# Altium footprint library Planck-Pi-DK.PcbLib: 21 footprints (part 1 of 2)
Each footprint in its own frame and in the unit in brackets; x right, y up, seen from the top. Pads: shape width x height; smd on the part's side, far side on the other; paste and mask are expansions set on the pad; w line width, h text height; cw(c..) or ccw(c..) is an arc to the next point about the centre after c.
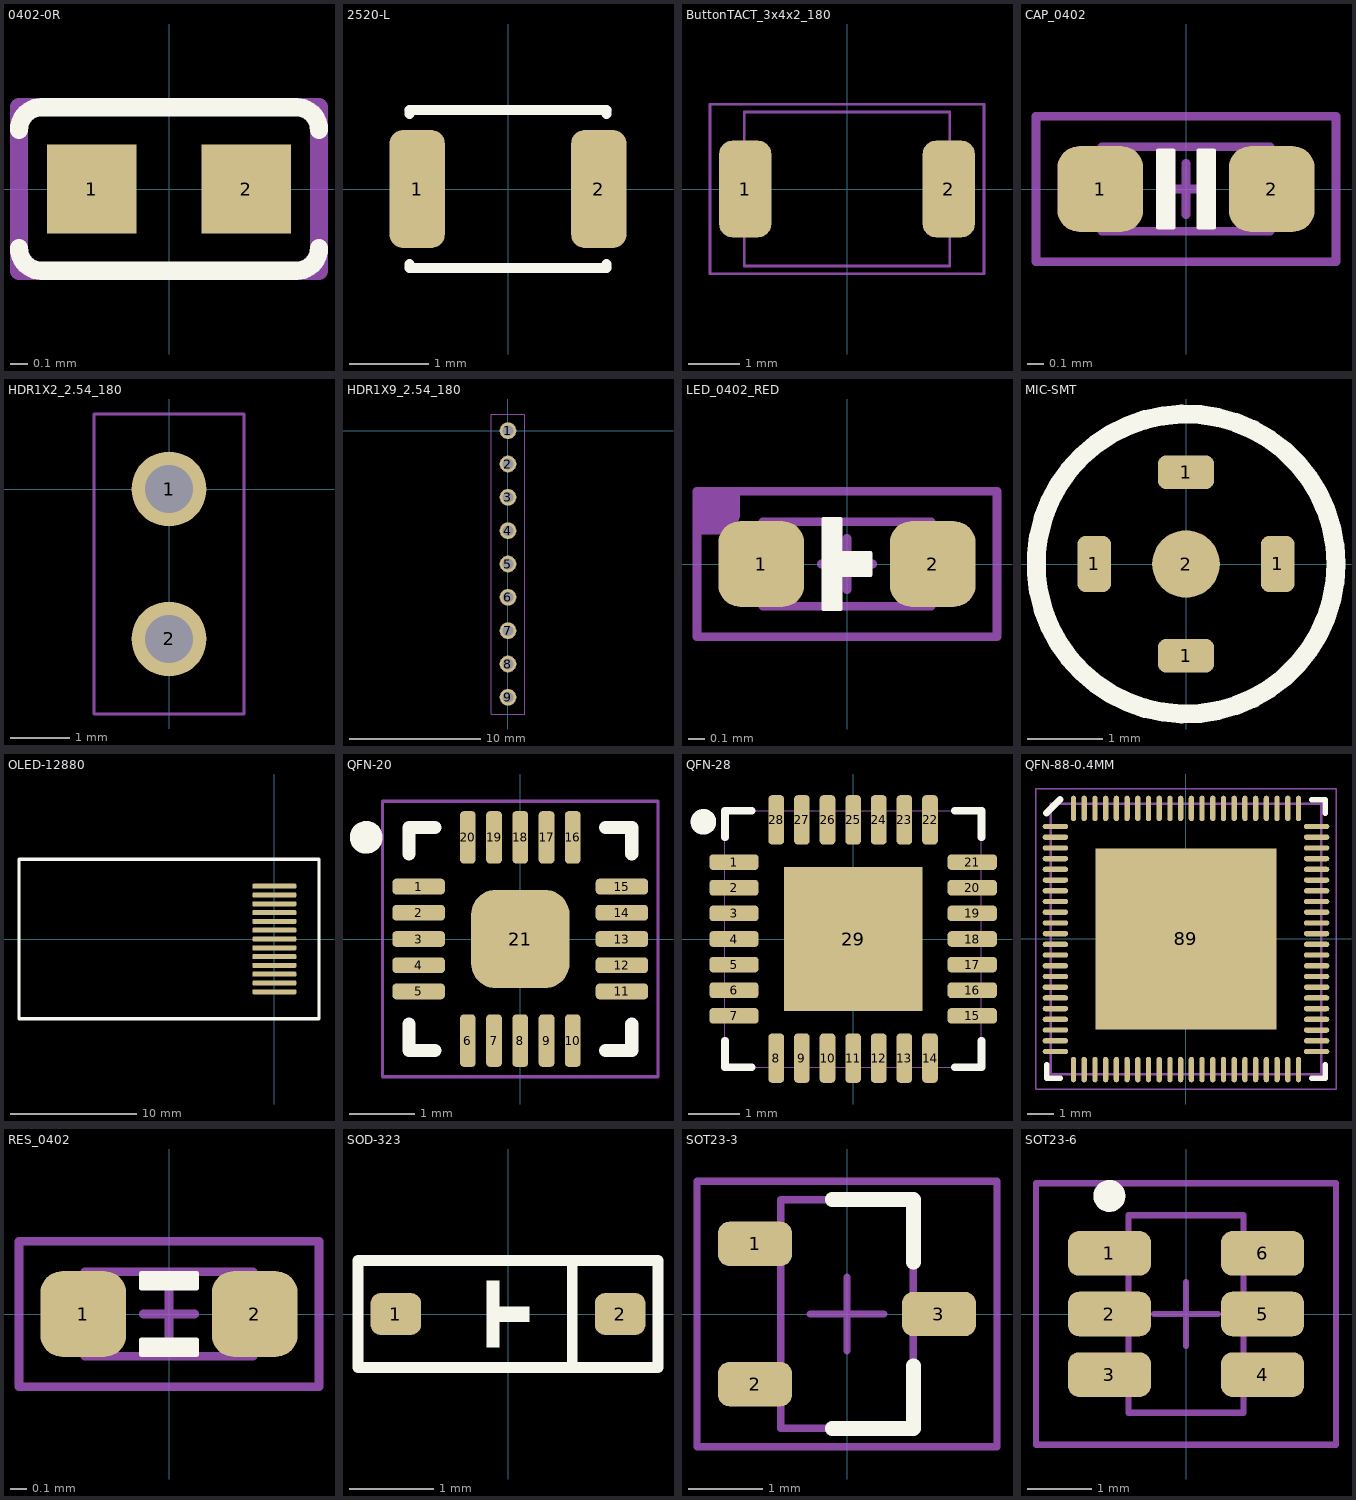
[diagram p0: the footprints below, top view; thin cyan lines are the x and y axes]

## 0402-0R [mm] "选择焊盘"
height 4.3
pads (2):
  rect 0.5x0.5 smd: 1(-0.432,0) 2(0.432,0)
Top Overlay:
  lines w0.102: -0.838,-0.33 ccw(c-0.711,-0.33) -0.711,-0.457 0.711,-0.457 ccw(c0.711,-0.33) 0.838,-0.33 ; -0.838,0.33 cw(c-0.711,0.33) -0.711,0.457 0.711,0.457 cw(c0.711,0.33) 0.838,0.33
Mechanical 15:
  lines w0.1: -0.838,-0.457 0.838,-0.457 0.838,0.457 -0.838,0.457 -0.838,-0.457

## 2520-L [mm]
height 4.3
pads (2):
  rrect50% 0.7x1.5 smd: 1(-1.15,0) 2(1.15,0)
Top Overlay:
  lines w0.127: -1.25,-0.95 -1.25,-1 1.25,-1 1.25,-0.95 ; -1.25,0.95 -1.25,1 1.25,1 1.25,0.95
Mechanical 1:
  lines w0.127: -1.25,-1 1.25,-1 ; -1.25,1 1.25,1
3D body "User Library-Chip InductorINDC2012X95N.STEP": height 0.92, standoff -0.03, extent -1,-0.6 1,0.6

## ButtonTACT_3x4x2_180 [mil]
height 78.74
pads (2):
  rrect50% 40x74 smd: 1(-78,0) 2(78,0)
Mechanical 13:
  lines w2: -78.73,-59.05 78.75,-59.05 78.75,59.06 -78.74,59.06 -78.74,-59.06
Mechanical 14:
  lines w2: -105,-65 105,-65 105,65 -105,65 -105,-65
3D body "20041.stp": height 62.99, standoff 0, extent -78.73,-49.2 78.75,49.22

## CAP_0402 [mil]
height 21.65
pads (2):
  rrect50% 20x20 smd: 1(-20,0) 2(20,0)
Top Overlay:
  region: -6.5,9 -3,9 -3,-9 -6.5,-9
  region: 6.5,-9 3,-9 3,9 6.5,9
  lines w1: -6.5,-9 -3,-9 -3,9 -6.5,9 -6.5,-9 ; 3,-9 3,9 6.5,9 6.5,-9 3,-9
Mechanical 13:
  lines w2: -6,0 6,0 ; 0,-6 0,6 ; -19.69,-9.84 -19.69,9.84 19.68,9.84 19.68,-9.84 -19.69,-9.84
Mechanical 14:
  lines w2: -35,-17 -35,17 35,17 35,-17 -35,-17
3D body "CAPC1005X05L.step": height 19.68, standoff 0, extent -19.68,-9.84 19.69,9.85

## HDR1X2_2.54_180 [mil]
height 169.29
pads (2):
  round 50 hole 32: 1(0,0) 2(0,-100)
Mechanical 13:
  lines w2: -50,-150 50,-150 50,50 -50,50 -50,-150
Mechanical 14:
  lines w2: -50,-150 50,-150 50,50 -50,50 -50,-150
3D body "pin_header_aw140-eg-g02d.stp": height 322.83, standoff -118.11, extent -49.18,-150 49.18,50

## HDR1X9_2.54_180 [mil]
height 169.29
pads (9):
  round 50 hole 32: 1(0,0) 2(0,-100) 3(0,-200) 4(0,-300) 5(0,-400) 6(0,-500) 7(0,-600) 8(0,-700) 9(0,-800)
Mechanical 13:
  lines w2: -50,-850 50,-850 50,50 -50,50 -50,-850
Mechanical 14:
  lines w2: -50,-850 -50,50 50,50 50,-850 -50,-850
  text ".Designator" at -31,-420 h80
3D body "pin_header_aw140-eg-g09d.stp": height 322.83, standoff -118.11, extent -49.18,-849.99 49.18,50

## LED_0402_RED [mil]
height 31.5
pads (2):
  rrect50% 20x20 smd: 1(-20,0) 2(20,0)
Top Overlay:
  region: -5.5,10.5 -1.5,10.5 -1.5,2.5 5.5,2.5 5.5,-2.5 -1.5,-2.5 -1.5,-10.5 -5.5,-10.5
  lines w1: -5.5,-10.5 -5.5,10.5 -1.5,10.5 -1.5,2.5 5.5,2.5 5.5,-2.5 -1.5,-2.5 -1.5,-10.5 -5.5,-10.5
Mechanical 13:
  lines w2: -6,0 6,0 ; 0,-6 0,6 ; -19.69,-9.84 19.68,-9.84 19.68,9.84 -19.69,9.84 -19.69,-9.84
Mechanical 14:
  region: -35,17 -25,17 -25,12 -25,11.01 -25.76,9.17 -27.17,7.76 -29.01,7 -30,7 -35,7
  lines w2: -35,-17 35,-17 35,17 -35,17 -35,-17
3D body "User Library-led_0402LED0402 red_.STEP": height 17.72, standoff 0, extent -19.88,-9.84 19.89,9.85

## MIC-SMT [mm]
height 0.8
pads (5):
  rrect50% 0.45x0.75 smd: 1(-1.223,0) 1(1.223,0)
  rrect50% 0.75x0.45 smd: 1(0,-1.223) 1(0,1.223)
  round 0.9 smd: 2(0,0)
Top Overlay:
  circle w0.254: c0,0 r2
3D body "mic.step": height 1.35, standoff 0, extent -2,-2 2,2

## OLED-12880 [mm]
height 4.3
pads (13):
  rrect50% 3.5x0.4 smd: 1(0,-4.2) 2(0,-3.5) 3(0,-2.8) 4(0,-2.1) 5(0,-1.4) 6(0,-0.7) 7(0,0) 8(0,0.7) 9(0,1.4) 10(0,2.1) 11(0,2.8) 12(0,3.5) 13(0,4.2)
Top Overlay:
  lines w0.254: -20.32,-6.35 -20.32,6.35 3.556,6.35 3.556,-6.35 -20.32,-6.35
3D body "Ctrl-DualBoard-Down v1.step": height 1.55, standoff 0.09, extent -20.182,-6.25 7.54,6.25

## QFN-20 [mm] "QFN, 20-Leads, Body 3.00x3.00mm, Pitch 0.40mm, Thermal Pad 1.65x1.65mm, IPC Medium Density"
height 0.8
pads (21):
  rrect50% 0.8x0.24 smd: 1(-1.55,0.8) 2(-1.55,0.4) 3(-1.55,0) 4(-1.55,-0.4) 5(-1.55,-0.8) 11(1.55,-0.8) 12(1.55,-0.4) 13(1.55,0) 14(1.55,0.4) 15(1.55,0.8)
  rrect50% 0.24x0.8 smd: 6(-0.8,-1.55) 7(-0.4,-1.55) 8(0,-1.55) 9(0.4,-1.55) 10(0.8,-1.55) 16(0.8,1.55) 17(0.4,1.55) 18(0,1.55) 19(-0.4,1.55) 20(-0.8,1.55)
  rrect50% 1.5x1.5 smd: 21(0,0)
Top Overlay:
  circle w0.25: c-2.35,1.55 r0.125
  lines w0.2: -1.7,-1.3 -1.7,-1.7 -1.3,-1.7 ; -1.7,1.3 -1.7,1.7 -1.3,1.7 ; 1.3,-1.7 1.7,-1.7 1.7,-1.3 ; 1.3,1.7 1.7,1.7 1.7,1.3
Mechanical 15:
  lines w0.05: -2.1,-2.1 -2.1,2.1 2.1,2.1 2.1,-2.1 -2.1,-2.1
  lines w0.1: -0.5,0 0.5,0 ; 0,-0.5 0,0.5
3D body "QFN40P300X300X80_HS-21N.step": height 0.8, standoff 0, extent -1.56,-1.56 1.56,1.56

## QFN-28 [mil]
height 169.29
pads (29):
  rrect50% 38x12 smd mask+5: 1(-91.5,59.06) 2(-91.5,39.37) 3(-91.5,19.68) 4(-91.5,0) 5(-91.5,-19.68) 6(-91.5,-39.37) 7(-91.5,-59.06) 15(91.5,-59.06) 16(91.5,-39.37) 17(91.5,-19.68) 18(91.5,0) 19(91.5,19.68) 20(91.5,39.37) 21(91.5,59.06)
  rrect50% 12x38 smd mask+5: 8(-59.06,-91.5) 9(-39.37,-91.5) 10(-19.68,-91.5) 11(0,-91.5) 12(19.68,-91.5) 13(39.37,-91.5) 14(59.06,-91.5) 22(59.06,91.5) 23(39.37,91.5) 24(19.68,91.5) 25(0,91.5) 26(-19.68,91.5) 27(-39.37,91.5) 28(-59.06,91.5)
  rect 106.3x110.24 smd: 29(0,0)
Top Overlay:
  circle w9.84: c-115,90 r4.92
  lines w6: -98.5,-78.16 -98.5,-98.5 -78.16,-98.5 ; -98.5,78.16 -98.5,98.5 -78.16,98.5 ; 78.16,-98.5 98.5,-98.5 98.5,-78.16 ; 78.16,98.5 98.5,98.5 98.5,78.16
Mechanical 1:
  lines w0: -98.5,-98.5 -98.5,98.5 98.5,98.5 98.5,-98.5 -98.5,-98.5 ; -98.5,-65.06 -98.5,-53.06 -98.5,-65.06 ; -98.5,-45.37 -98.5,-33.37 -98.5,-45.37 ; -98.5,-25.68 -98.5,-13.69 -98.5,-25.68 ; -98.5,-6 -98.5,6 -98.5,-6 ; -98.5,13.69 -98.5,25.68 -98.5,13.69 ; -98.5,33.37 -98.5,45.37 -98.5,33.37 ; -98.5,53.06 -98.5,65.06 -98.5,53.06 ; -65.06,-98.5 -53.06,-98.5 -65.06,-98.5 ; -65.06,98.5 -53.06,98.5 -65.06,98.5 ; -45.37,-98.5 -33.37,-98.5 -45.37,-98.5 ; -45.37,98.5 -33.37,98.5 -45.37,98.5 ; -25.68,-98.5 -13.69,-98.5 -25.68,-98.5 ; -25.68,98.5 -13.69,98.5 -25.68,98.5 ; -6,-98.5 6,-98.5 -6,-98.5 ; -6,98.5 6,98.5 -6,98.5 ; 13.69,-98.5 25.68,-98.5 13.69,-98.5 ; 13.69,98.5 25.68,98.5 13.69,98.5 ; 33.37,-98.5 45.37,-98.5 33.37,-98.5 ; 33.37,98.5 45.37,98.5 33.37,98.5 ; 53.06,-98.5 65.06,-98.5 53.06,-98.5 ; 53.06,98.5 65.06,98.5 53.06,98.5 ; 98.5,-65.06 98.5,-53.06 98.5,-65.06 ; 98.5,-45.37 98.5,-33.37 98.5,-45.37 ; 98.5,-25.68 98.5,-13.69 98.5,-25.68 ; 98.5,-6 98.5,6 98.5,-6 ; 98.5,13.69 98.5,25.68 98.5,13.69 ; 98.5,33.37 98.5,45.37 98.5,33.37 ; 98.5,53.06 98.5,65.06 98.5,53.06
3D body "321.stp": height 35.43, standoff 0, extent -98.5,-98.5 98.35,98.35

## QFN-88-0.4MM [mm] "QFN, 88-Leads, Body 10.00x10.00mm, Pitch 0.40mm, Thermal Pad 6.74x6.74mm, IPC Medium Density"
height 0.85
pads (89):
  oval 0.95x0.2 smd: 1(-4.875,4.2) 2(-4.875,3.8) 3(-4.875,3.4) 4(-4.875,3) 5(-4.875,2.6) 6(-4.875,2.2) 7(-4.875,1.8) 8(-4.875,1.4) 9(-4.875,1) 10(-4.875,0.6) 11(-4.875,0.2) 12(-4.875,-0.2) 13(-4.875,-0.6) 14(-4.875,-1) 15(-4.875,-1.4) 16(-4.875,-1.8) 17(-4.875,-2.2) 18(-4.875,-2.6) 19(-4.875,-3) 20(-4.875,-3.4) 21(-4.875,-3.8) 22(-4.875,-4.2) 45(4.875,-4.2) 46(4.875,-3.8) 47(4.875,-3.4) 48(4.875,-3) 49(4.875,-2.6) 50(4.875,-2.2) 51(4.875,-1.8) 52(4.875,-1.4) 53(4.875,-1) 54(4.875,-0.6) 55(4.875,-0.2) 56(4.875,0.2) 57(4.875,0.6) 58(4.875,1) 59(4.875,1.4) 60(4.875,1.8) 61(4.875,2.2) 62(4.875,2.6) 63(4.875,3) 64(4.875,3.4) 65(4.875,3.8) 66(4.875,4.2)
  oval 0.2x0.95 smd: 23(-4.2,-4.875) 24(-3.8,-4.875) 25(-3.4,-4.875) 26(-3,-4.875) 27(-2.6,-4.875) 28(-2.2,-4.875) 29(-1.8,-4.875) 30(-1.4,-4.875) 31(-1,-4.875) 32(-0.6,-4.875) 33(-0.2,-4.875) 34(0.2,-4.875) 35(0.6,-4.875) 36(1,-4.875) 37(1.4,-4.875) 38(1.8,-4.875) 39(2.2,-4.875) 40(2.6,-4.875) 41(3,-4.875) 42(3.4,-4.875) 43(3.8,-4.875) 44(4.2,-4.875) 67(4.2,4.875) 68(3.8,4.875) 69(3.4,4.875) 70(3,4.875) 71(2.6,4.875) 72(2.2,4.875) 73(1.8,4.875) 74(1.4,4.875) 75(1,4.875) 76(0.6,4.875) 77(0.2,4.875) 78(-0.2,4.875) 79(-0.6,4.875) 80(-1,4.875) 81(-1.4,4.875) 82(-1.8,4.875) 83(-2.2,4.875) 84(-2.6,4.875) 85(-3,4.875) 86(-3.4,4.875) 87(-3.8,4.875) 88(-4.2,4.875)
  rect 6.74x6.74 smd: 89(0,0)
Top Overlay:
  lines w0.2: -5.2,-4.7 -5.2,-5.2 -4.7,-5.2 ; 4.7,-5.2 5.2,-5.2 5.2,-4.7 ; 4.7,5.2 5.2,5.2 5.2,4.7
  lines w0.254: -5.207,4.699 -4.699,5.207
Mechanical 13:
  lines w0.1: -5.05,-5.05 -5.05,5.05 5.05,5.05 5.05,-5.05 -5.05,-5.05
Mechanical 15:
  lines w0.05: -5.6,-5.6 -5.6,5.6 5.6,5.6 5.6,-5.6 -5.6,-5.6
  lines w0.1: -0.5,0 0.5,0 ; 0,-0.5 0,0.5
3D body "User Library-QFN-88P35_EP.step": height 1.11, standoff 0, extent -5.166,-5.166 5.166,5.166

## RES_0402 [mil]
height 13.78
pads (2):
  rrect50% 20x20 smd: 1(-20,0) 2(20,0)
Top Overlay:
  region: 6.5,-9.5 -6.5,-9.5 -6.5,-6 6.5,-6
  region: -6.5,9.5 6.5,9.5 6.5,6 -6.5,6
  lines w1: -6.5,-9.5 6.5,-9.5 6.5,-6 -6.5,-6 -6.5,-9.5 ; -6.5,6 -6.5,9.5 6.5,9.5 6.5,6 -6.5,6
Mechanical 13:
  lines w2: -6,0 6,0 ; 0,-6 0,6 ; -19.69,-9.84 -19.69,9.84 19.68,9.84 19.68,-9.84 -19.69,-9.84
Mechanical 14:
  lines w2: -35,-17 35,-17 35,17 -35,17 -35,-17
3D body "RESC1005X03L.step": height 13.78, standoff 0, extent -19.68,-9.84 19.69,9.85

## SOD-323 [mm]
height 4.3
pads (2):
  rrect50% 0.6x0.5 smd: 1(-1.329,0) 2(1.329,0)
Top Overlay:
  region: -0.254,0.394 -0.102,0.394 -0.102,0.089 0.254,0.089 0.254,-0.089 -0.102,-0.089 -0.102,-0.394 -0.254,-0.394
  lines w0.127: 0.762,-0.635 0.762,0.635 ; -1.778,-0.635 1.778,-0.635 1.778,0.635 -1.778,0.635 -1.778,-0.635
3D body "SW3dPS-SOD-323.STEP": height 1.15, standoff 0.05, extent -1.3,-0.675 1.3,0.675

## SOT23-3 [mm] "SOT23, 3-Leads, Body 3.1x3.0mm (max), Pitch 0.95mm, IPC Medium Density"
height 1.2
pads (3):
  rrect50% 1x0.6 smd: 1(-1.246,0.95) 2(-1.246,-0.95) 3(1.246,0)
Top Overlay:
  lines w0.2: -0.2,-1.55 0.9,-1.55 0.9,-0.7 ; -0.2,1.55 0.9,1.55 0.9,0.7
Mechanical 13:
  lines w0.1: -0.9,-1.55 0.9,-1.55 0.9,1.55 -0.9,1.55 -0.9,-1.55
Mechanical 15:
  lines w0.1: -0.5,0 0.5,0 ; 0,-0.5 0,0.5 ; -2.032,-1.8 2.032,-1.8 2.032,1.8 -2.032,1.8 -2.032,-1.8
3D body "SOT-23-3.stp": height 1.2, standoff 0, extent -1.298,-1.45 1.502,1.45

## SOT23-6 [mm]
height 4.3
pads (6):
  rrect50% 1.3x0.7 smd: 1(-1.2,0.95) 2(-1.2,0) 3(-1.2,-0.95) 4(1.2,-0.95) 5(1.2,0) 6(1.2,0.95)
Top Overlay:
  circle w0.25: c-1.2,1.85 r0.125
Mechanical 13:
  lines w0.1: -0.9,-1.55 0.9,-1.55 0.9,1.55 -0.9,1.55 -0.9,-1.55
Mechanical 15:
  lines w0.1: -0.5,0 0.5,0 ; 0,-0.5 0,0.5 ; -2.35,-2.05 2.35,-2.05 2.35,2.05 -2.35,2.05 -2.35,-2.05
3D body "User Library-SOT23-6-2.step": height 1.45, standoff 0, extent -1.4,-1.45 1.4,1.45